# EAGLE library part PTN78060HAH (library FSAE Electric)
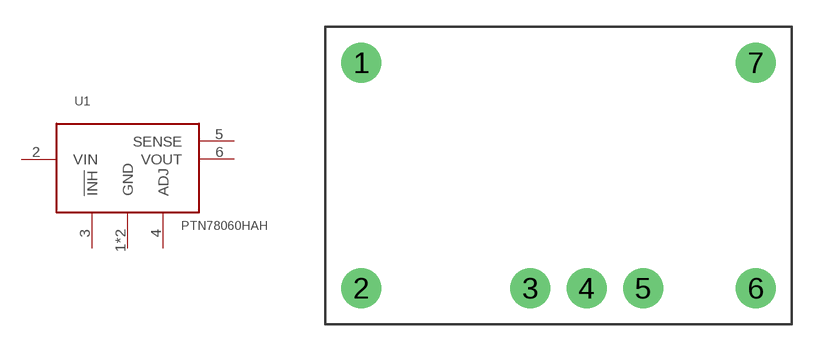
[diagram p48: symbol with the pads of PTN78060HAH; footprint PTN78060HAH]

Designator prefix U1

## PTN78060HAH (PARTNO: PTN78060HAH)  [PTN78060HAH]
1  GND
2  VIN
3  !INH
4  ADJ
5  SENSE
6  VOUT
7  GND

## Footprint PTN78060HAH (pad centres in mm)
drill 1.5: 1 2.032,14.732; 2 2.032,2.032; 3 11.557,2.032; 4 14.732,2.032; 5 17.907,2.032; 6 24.257,2.032; 7 24.257,14.732